# Altium footprint library 1-Pcblib_Res.PcbLib: 58 footprints (part 1 of 4)
Each footprint in its own frame and in the unit in brackets; x right, y up, seen from the top. Pads: shape width x height; smd on the part's side, far side on the other; paste and mask are expansions set on the pad; w line width, h text height; cw(c..) or ccw(c..) is an arc to the next point about the centre after c.
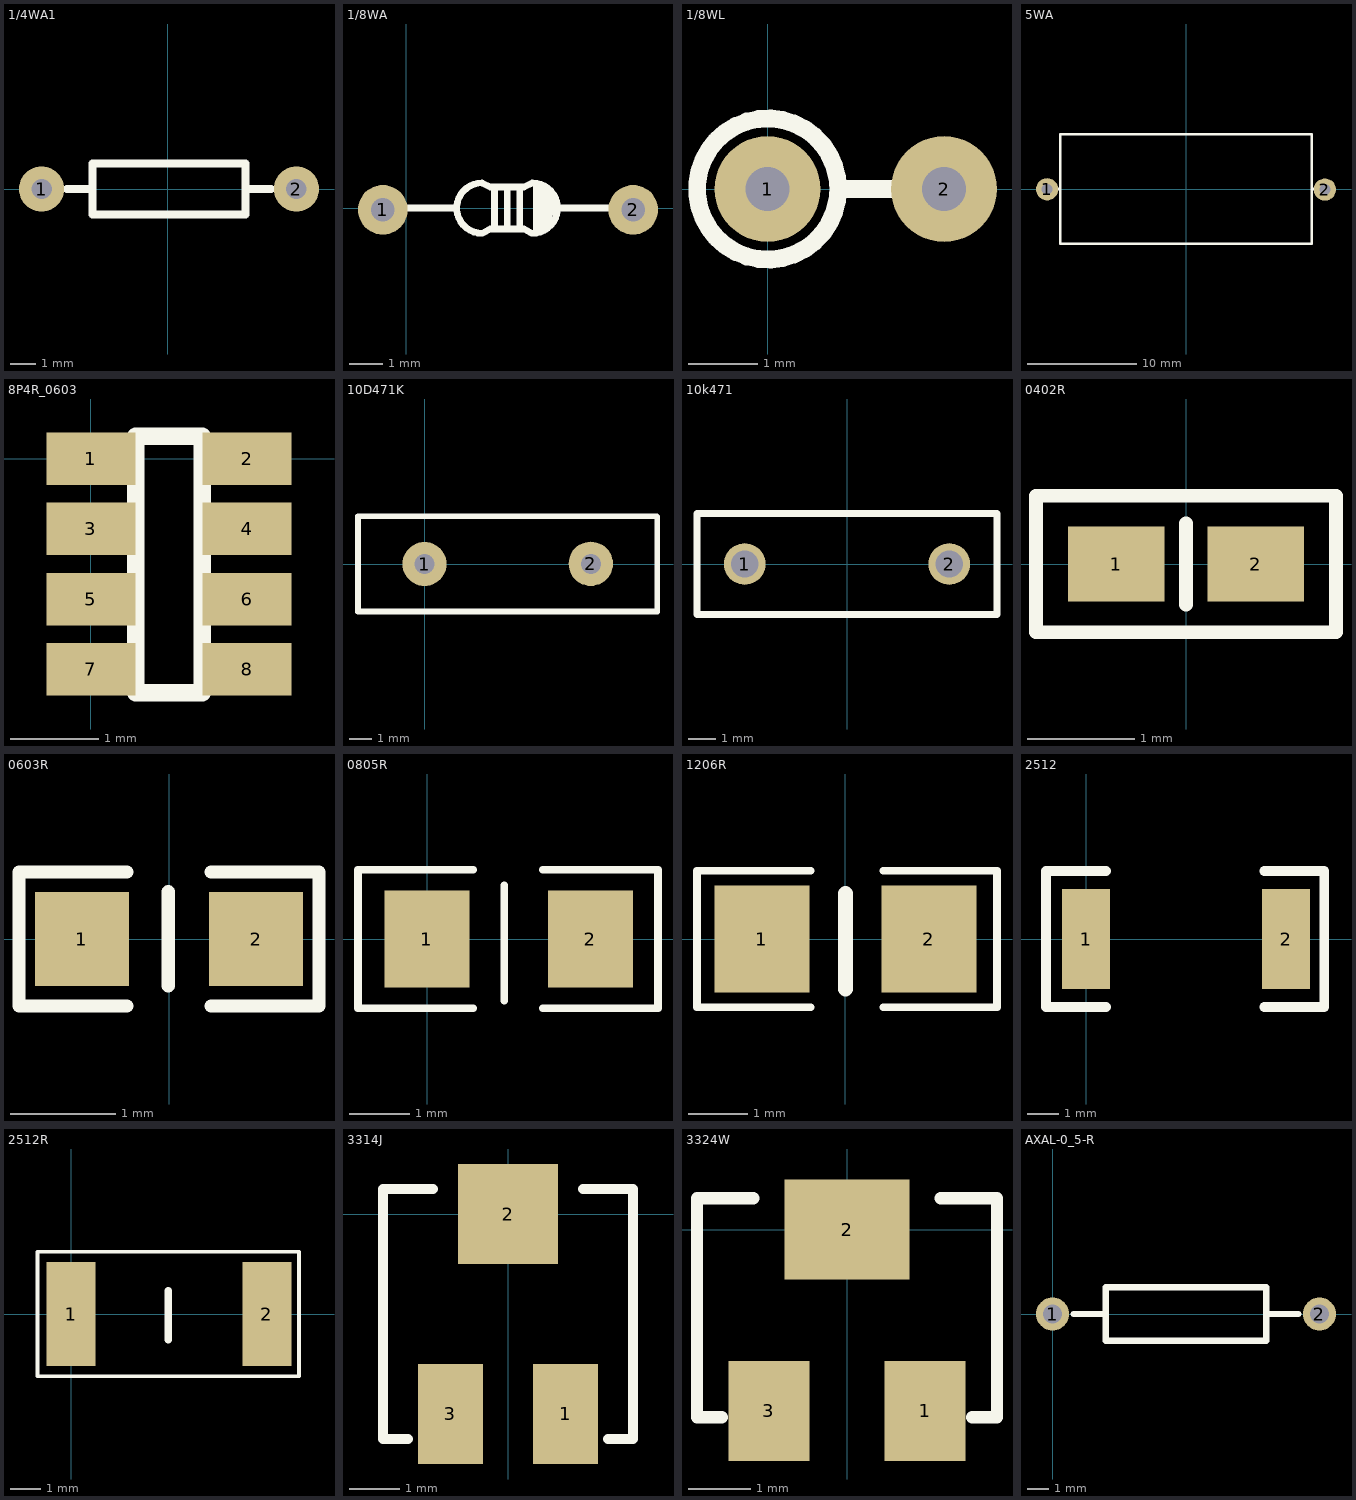
[diagram p0: the footprints below, top view; thin cyan lines are the x and y axes]

## 1/4WA1 [mm]
pads (2):
  round 1.8 hole 0.813: 1(-5.029,0) 2(5.131,0)
Top Overlay:
  lines w0.305: -4.013,0 -2.997,0 ; 3.099,0 4.115,0 ; -2.997,-1.016 3.099,-1.016 3.099,1.016 -2.997,1.016 -2.997,-1.016
3D body: height 2, standoff -3.26, extent -5.304,-1.275 5.456,1.245

## 1/8WA [mm]
pads (2):
  round 1.5 hole 0.7: 1(-0.711,-0.051) 2(6.858,-0.051)
Top Overlay:
  lines w0.203: 0,0 1.524,0 ; 2.667,-0.635 2.667,0.635 ; 3.048,-0.635 3.048,0.635 ; 3.429,-0.635 3.429,0.635 ; 3.937,-0.635 3.937,0.635 ; 4.064,-0.635 4.064,0.635 ; 4.191,-0.635 4.191,0.508 ; 4.318,-0.381 4.318,0.381 ; 4.445,-0.127 4.445,0.254 ; 4.572,0 6.096,0 ; 2.286,-0.762 cw(c2.286,0) 2.286,0.762 2.54,0.635 3.556,0.635 3.81,0.762 cw(c3.81,0) 3.81,-0.762 3.556,-0.635 2.54,-0.635 2.286,-0.762
3D body: height 2.42, standoff -3.48, extent -0.952,-0.914 7.048,0.886

## 1/8WL [mil]
pads (2):
  round 60 hole 25: 1(0,0) 2(100,0)
Top Overlay:
  circle w10: c0,0 r40
  lines w10: 40,0 70,0
3D body: height 285.43, standoff -59.06, extent -36.08,-37 110.08,35.48

## 5WA [mil]
pads (2):
  round 80 hole 39.37: 1(-500,-1) 2(500,-2)
Top Overlay:
  lines w10: -490.5,0 -452.76,0 ; 452.76,0 488.5,0 ; -452.76,-196.85 452.76,-196.85 452.76,196.85 -452.76,196.85 -452.76,-196.85
3D body: height 362.6, standoff -98.43, extent -519.68,-193 519.68,188.89

## 8P4R_0603 [mm]
pads (8):
  rect 1.016x0.6 smd: 1(0,0) 2(1.778,0) 3(0,-0.8) 4(1.778,-0.8) 5(0,-1.6) 6(1.778,-1.6) 7(0,-2.4) 8(1.778,-2.4)
Top Overlay:
  lines w0.2: 0.508,-2.667 1.27,-2.667 1.27,0.254 0.508,0.254 0.508,-2.667

## 10D471K [mm]
pads (2):
  round 2 hole 0.9: 1(0,0) 2(7.5,0.01)
Top Overlay:
  lines w0.254: -3,-2.15 -3,2.16 10.373,2.16 10.422,2.16 cw(c10.422,2.049) 10.5,2.128 10.5,-2.16 ; -3,-2.14 10.5,-2.14

## 10k471 [mm]
pads (2):
  round 1.524 hole 1: 1(-3.75,0) 2(3.75,0)
Top Overlay:
  lines w0.254: -5.5,-1.85 5.5,-1.85 5.5,1.85 -5.5,1.85 -5.5,-1.85
3D body: height 15.96, standoff -3, extent -6,-2.074 6,1.905

## 0402R [mm] "Chip Capacitor; Body 1.0 x 0.5 mm (LxW typ)"
height 0.55
pads (2):
  rect 0.9x0.7 smd: 1(-0.65,0) 2(0.65,0)
Top Overlay:
  lines w0.127: 0,-0.381 0,0.381 ; -1.397,-0.635 -1.397,0.135 -1.397,0.635 1.397,0.635 1.397,-0.635 -1.397,-0.635

## 0603R [mil]
pads (2):
  rect 35x35 smd: 1(-32.5,0) 2(32.5,0)
Top Overlay:
  lines w5: -15.75,-25 -56,-25 -56,25 -15.76,25 ; -0.26,-17.43 -0.26,17.67 ; 15.74,-25 56,-25 56,25 15.74,25

## 0805R [mm]
pads (2):
  rect 1.4x1.6 smd: 1(-0.006,-0.001) 2(2.694,-0.001)
Top Overlay:
  lines w0.127: 0.762,-1.143 -1.143,-1.143 -1.143,1.143 0.762,1.143 ; 1.27,-1.016 1.27,0.889 ; 1.905,-1.143 3.81,-1.143 3.81,1.143 1.905,1.143

## 1206R [mm] "Chip Capacitor; Body 3.2 x 1.6 mm (LxW typ)"
height 1.3
pads (2):
  rect 1.6x1.8 smd: 1(-1.4,0) 2(1.4,0)
Top Overlay:
  lines w0.127: -0.584,-1.143 -2.489,-1.143 -2.489,1.143 -0.584,1.143 ; 0.635,-1.143 2.54,-1.143 2.54,1.143 0.635,1.143
  lines w0.254: 0,-0.838 0,0.762

## 2512 [mil]
pads (2):
  rect 60x125 smd: 1(-0.23,0.49) 2(249.77,0.49)
Top Overlay:
  lines w12: 24.77,-84.51 -50.23,-84.51 -50.23,85.49 24.77,85.49 ; 222.77,-84.51 297.77,-84.51 297.77,85.49 222.77,85.49
3D body: height 24.44, standoff 0, extent 0.61,-63 249.4,63

## 2512R [mm]
height 1.2
pads (2):
  rect 1.6x3.4 smd: 1(0,0) 2(6.4,0)
Top Overlay:
  lines w0.127: -1.092,2.032 -1.092,-2.032 7.442,-2.032 7.442,2.032 -1.041,2.032
  lines w0.254: 3.175,-0.838 3.175,0.762

## 3314J [mm]
pads (3):
  rect 1.3x2 smd: 1(1.15,-4) 3(-1.15,-4)
  rect 2x2 smd: 2(0,0)
Top Overlay:
  lines w0.2: -2,-4.5 -2.5,-4.5 -2.5,0.5 -1.5,0.5 ; 1.5,0.5 2.5,0.5 2.5,-4.5 2,-4.5

## 3324W [mm]
pads (3):
  rect 1.3x1.6 smd: 1(1.25,-2.9) 3(-1.25,-2.9)
  rect 2x1.6 smd: 2(0,0)
Top Overlay:
  lines w0.2: -2,-3 -2.4,-3 -2.4,0.5 -1.5,0.5 ; 1.5,0.5 2.4,0.5 2.4,-3 2,-3

## AXAL-0_5-R [mil]
pads (2):
  round 62 hole 35.43: 1(-0.24,0.14) 2(499.76,0.14)
Top Overlay:
  lines w12: 39.76,0.14 99.76,0.14 ; 399.76,0.14 459.76,0.14 ; 99.76,-49.85 399.76,-49.85 399.76,50.15 99.76,50.15 99.76,-49.85
3D body: height 19.68, standoff -161.56, extent -15,-56 515,56.5